# EAGLE library part P8X32A (library PP_DigitalIC)
Manufacturer Part #: P8X32A Manufacturer: Parallax Description: 32-bit Microcontrollers - MCU Propeller Chip
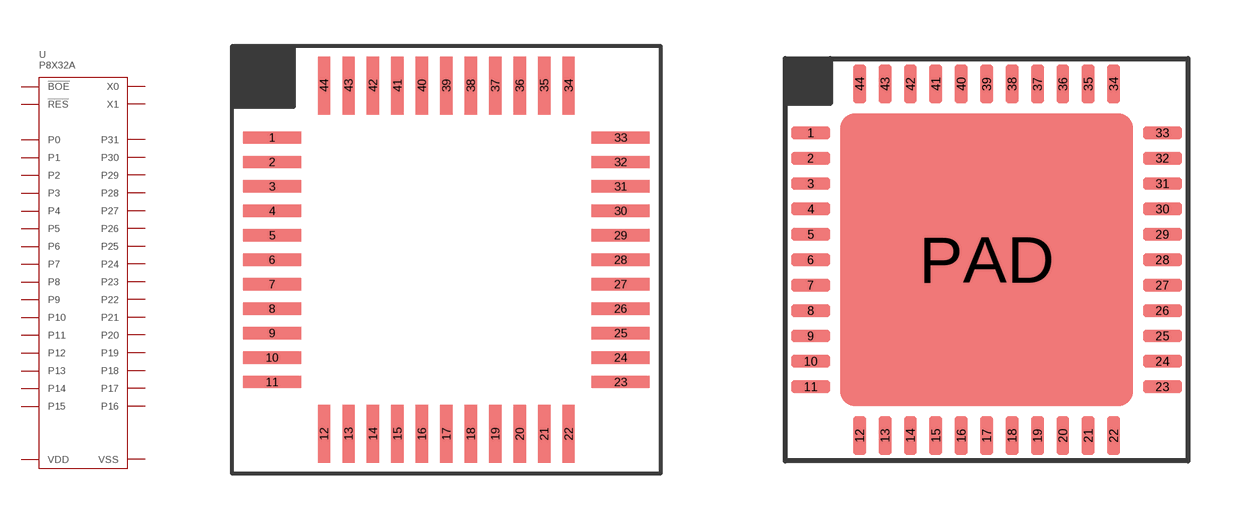
[diagram p4: symbol with the pads of P8X32A_LQFP-44; footprints P8X32A_LQFP-44, P8X32A_QFN-44]

Designator prefix U

## P8X32A-Q44  [P8X32A_LQFP-44]
1  P4
2  P5
3  P6
4  P7
5  VSS
6  !BOE
7  !RES
8  VDD
9  P8
10  P9
11  P10
12  P11
13  P12
14  P13
15  P14
16  P15
17  VSS
18  VDD
19  P16
20  P17
21  P18
22  P19
23  P20
24  P21
25  P22
26  P23
27  VSS
28  X1
29  X0
30  VDD
31  P24
32  P25
33  P26
34  P27
35  P28
36  P29
37  P30
38  P31
39  VSS
40  VDD
41  P0
42  P1
43  P2
44  P3

## P8X32A-M44  [P8X32A_QFN-44]
Pads as for P8X32A_LQFP-44

## P8X32A-DUAL  [DUAL_LQFP_QFN_44]
1  P4
2  P5
3  P6
4  P7
5  VSS
6  !BOE
7  !RES
8  VDD
9  P8
10  P9
11  P10
12  P11
13  P12
14  P13
15  P14
16  P15
17  VSS
18  VDD
19  P16
20  P17
21  P18
22  P19
23  P20
24  P21
25  P22
26  P23
27  VSS
28  X1
29  X0
30  VDD
31  P24
32  P25
33  P26
34  P27
35  P28
36  P29
37  P30
38  P31
39  VSS
40  VDD
41  P0
42  P1
43  P2
44  P3
45  P4
46  P5
47  P6
48  P7
49  VSS
50  !BOE
51  !RES
52  VDD
53  P8
54  P9
55  P10
56  P11
57  P12
58  P13
59  P14
60  P15
61  VSS
62  VDD
63  P16
64  P17
65  P18
66  P19
67  P20
68  P21
69  P22
70  P23
71  VSS
72  X1
73  X0
74  VDD
75  P24
76  P25
77  P26
78  P27
79  P28
80  P29
81  P30
82  P31
83  VSS
84  VDD
85  P0
86  P1
87  P2
88  P3
PAD  VSS

## Footprint P8X32A_LQFP-44 (pad centres in mm)
smd 1.9 x 0.4: 1 -5.7,4; 2 -5.7,3.2; 3 -5.7,2.4; 4 -5.7,1.6; 5 -5.7,0.8; 6 -5.7,0; 7 -5.7,-0.8; 8 -5.7,-1.6; 9 -5.7,-2.4; 10 -5.7,-3.2; 11 -5.7,-4; 23 5.7,-4; 24 5.7,-3.2; 25 5.7,-2.4; 26 5.7,-1.6; 27 5.7,-0.8; 28 5.7,0; 29 5.7,0.8; 30 5.7,1.6; 31 5.7,2.4; 32 5.7,3.2; 33 5.7,4
smd 0.4 x 1.9: 12 -4,-5.7; 13 -3.2,-5.7; 14 -2.4,-5.7; 15 -1.6,-5.7; 16 -0.8,-5.7; 17 0,-5.7; 18 0.8,-5.7; 19 1.6,-5.7; 20 2.4,-5.7; 21 3.2,-5.7; 22 4,-5.7; 34 4,5.7; 35 3.2,5.7; 36 2.4,5.7; 37 1.6,5.7; 38 0.8,5.7; 39 0,5.7; 40 -0.8,5.7; 41 -1.6,5.7; 42 -2.4,5.7; 43 -3.2,5.7; 44 -4,5.7

## Footprint P8X32A_QFN-44 (pad centres in mm)
smd 1 x 0.33: 1 -4.5,3.25; 2 -4.5,2.6; 3 -4.5,1.95; 4 -4.5,1.3; 5 -4.5,0.65; 6 -4.5,0; 7 -4.5,-0.65; 8 -4.5,-1.3; 9 -4.5,-1.95; 10 -4.5,-2.6; 11 -4.5,-3.25; 23 4.5,-3.25; 24 4.5,-2.6; 25 4.5,-1.95; 26 4.5,-1.3; 27 4.5,-0.65; 28 4.5,0; 29 4.5,0.65; 30 4.5,1.3; 31 4.5,1.95; 32 4.5,2.6; 33 4.5,3.25
smd 0.33 x 1: 12 -3.25,-4.5; 13 -2.6,-4.5; 14 -1.95,-4.5; 15 -1.3,-4.5; 16 -0.65,-4.5; 17 0,-4.5; 18 0.65,-4.5; 19 1.3,-4.5; 20 1.95,-4.5; 21 2.6,-4.5; 22 3.25,-4.5; 34 3.25,4.5; 35 2.6,4.5; 36 1.95,4.5; 37 1.3,4.5; 38 0.65,4.5; 39 0,4.5; 40 -0.65,4.5; 41 -1.3,4.5; 42 -1.95,4.5; 43 -2.6,4.5; 44 -3.25,4.5
smd 7.5 x 7.5: PAD 0,0

## Footprint DUAL_LQFP_QFN_44 (pad centres in mm)
smd 1.25 x 0.4: 1 -6.025,4; 2 -6.025,3.2; 3 -6.025,2.4; 4 -6.025,1.6; 5 -6.025,0.8; 6 -6.025,0; 7 -6.025,-0.8; 8 -6.025,-1.6; 9 -6.025,-2.4; 10 -6.025,-3.2; 11 -6.025,-4; 23 6.025,-4; 24 6.025,-3.2; 25 6.025,-2.4; 26 6.025,-1.6; 27 6.025,-0.8; 28 6.025,0; 29 6.025,0.8; 30 6.025,1.6; 31 6.025,2.4; 32 6.025,3.2; 33 6.025,4
smd 0.4 x 1.25: 12 -4,-6.025; 13 -3.2,-6.025; 14 -2.4,-6.025; 15 -1.6,-6.025; 16 -0.8,-6.025; 17 0,-6.025; 18 0.8,-6.025; 19 1.6,-6.025; 20 2.4,-6.025; 21 3.2,-6.025; 22 4,-6.025; 34 4,6.025; 35 3.2,6.025; 36 2.4,6.025; 37 1.6,6.025; 38 0.8,6.025; 39 0,6.025; 40 -0.8,6.025; 41 -1.6,6.025; 42 -2.4,6.025; 43 -3.2,6.025; 44 -4,6.025
smd 0.6 x 0.33: 45 -4.3,3.25; 46 -4.3,2.6; 47 -4.3,1.95; 48 -4.3,1.3; 49 -4.3,0.65; 50 -4.3,0; 51 -4.3,-0.65; 52 -4.3,-1.3; 53 -4.3,-1.95; 54 -4.3,-2.6; 55 -4.3,-3.25; 67 4.3,-3.25; 68 4.3,-2.6; 69 4.3,-1.95; 70 4.3,-1.3; 71 4.3,-0.65; 72 4.3,0; 73 4.3,0.65; 74 4.3,1.3; 75 4.3,1.95; 76 4.3,2.6; 77 4.3,3.25
smd 0.33 x 0.6: 56 -3.25,-4.3; 57 -2.6,-4.3; 58 -1.95,-4.3; 59 -1.3,-4.3; 60 -0.65,-4.3; 61 0,-4.3; 62 0.65,-4.3; 63 1.3,-4.3; 64 1.95,-4.3; 65 2.6,-4.3; 66 3.25,-4.3; 78 3.25,4.3; 79 2.6,4.3; 80 1.95,4.3; 81 1.3,4.3; 82 0.65,4.3; 83 0,4.3; 84 -0.65,4.3; 85 -1.3,4.3; 86 -1.95,4.3; 87 -2.6,4.3; 88 -3.25,4.3
smd 7.5 x 7.5: PAD 0,0